# Altium footprint library Programmer.PcbLib: 4 footprints
Each footprint in its own frame and in the unit in brackets; x right, y up, seen from the top. Pads: shape width x height; smd on the part's side, far side on the other; paste and mask are expansions set on the pad; w line width, h text height; cw(c..) or ccw(c..) is an arc to the next point about the centre after c.
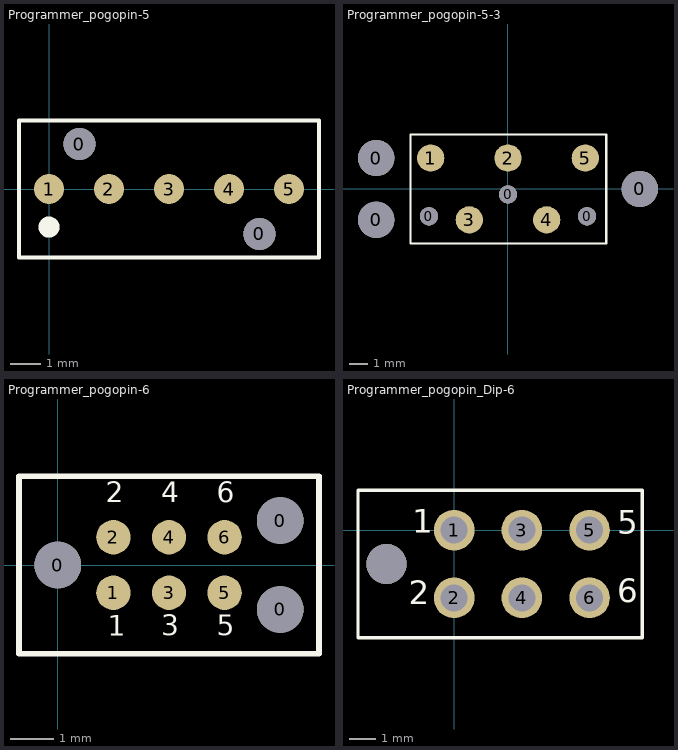
[diagram p0: the footprints below, top view; thin cyan lines are the x and y axes]

## Programmer_pogopin-5 [mm]
pads (7):
  round 1.067 hole 1.067 unplated paste-2539.97: 0(1.016,1.5) 0(7.016,-1.5)
  round 1 smd paste-2539.97: 1(0,0) 2(2,0) 3(4,0) 4(6,0) 5(8,0)
Top Overlay:
  circle w0.5: c0,-1.27 r0.1
  lines w0.127: -1,-2.286 -1,2.286 9,2.286 9,-2.286 -1,-2.286

## Programmer_pogopin-5-3 [mm]
pads (11):
  round 2 hole 2 unplated paste-2539.97: 0(-7.25,-1.7) 0(-7.25,1.7) 0(7.25,0)
  round 1 hole 1 unplated paste-2539.97: 0(-4.35,-1.5) 0(0,-0.3) 0(4.35,-1.5)
  round 1.5 smd paste-2539.97: 1(-4.25,1.7) 2(0,1.7) 3(-2.125,-1.7) 4(2.125,-1.7) 5(4.25,1.7)
Top Overlay:
  lines w0.127: -5.359,-2.999 -5.359,2.995 5.41,2.995 5.41,-2.999 -5.359,-2.999

## Programmer_pogopin-6 [mil]
pads (9):
  round 42.01 hole 42.01 unplated paste-99999: 0(0,0) 0(200,-40) 0(200,40)
  round 30.98 smd paste-99999: 1(50,-25) 2(50,25) 3(100,-25) 4(100,25) 5(150,-25) 6(150,25)
Top Overlay:
  lines w5: -35,-80 -35,80 235,80 235,-80 10,-80 -35,-80
  text "1" at 45,-70 h31.5
  text "3" at 93,-69.65 h31.5
  text "5" at 143,-69.65 h31.5
  text "6" at 143,50.35 h31.5
  text "4" at 93,50 h31.5
  text "2" at 42.97,50 h31.5

## Programmer_pogopin_Dip-6 [mil]
pads (7):
  round 60 hole 40: 1(0,0) 2(0,-100) 3(100,0) 4(100,-100) 5(200,0) 6(200,-100)
  round 59.06 hole 59.06 unplated: ""(-100,-50)
Top Overlay:
  lines w5: -142,-159.06 -142,59.06 278,59.06 278,-159.06 -142,-159.06
  text "1" at -62,-16 h60
  text "2" at -67.06,-121 h60
  text "6" at 241,-118.33 h60
  text "5" at 241,-17.33 h60